# EAGLE library part STM32WB5MMG (library stm32wb5mmg)
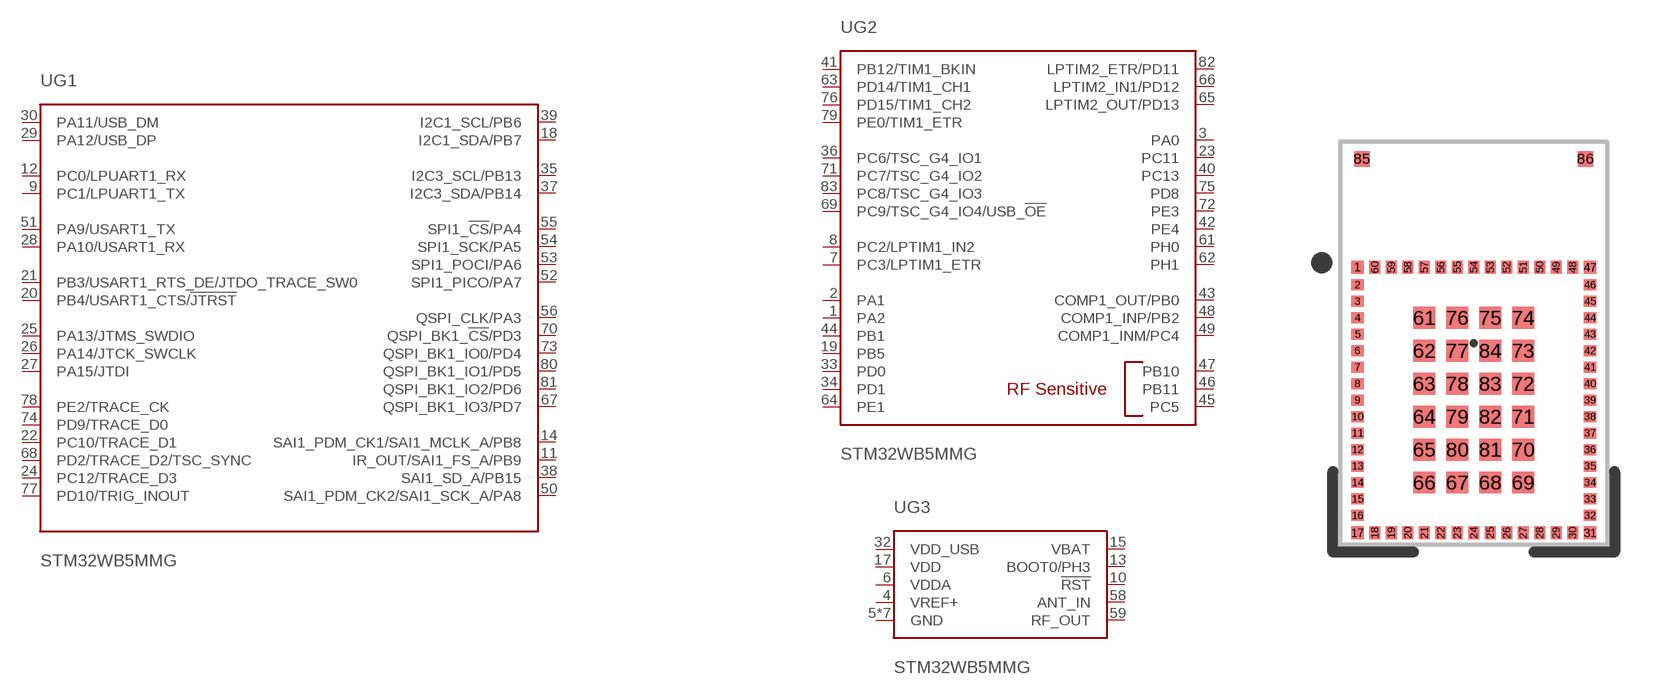
[diagram p0: symbol with the pads of SIP-LGA86; footprint SIP-LGA86]

Designator prefix U; gates G1=STM32WB5MMG_COMMS G2=STM32WB5MMG_PERIPHS G3=STM32WB5MMG_PWR_MISC

## STM32WB5MMG_LOGICAL (PROD_ID: IC-17415; VALUE: STM32WB5MMG)  [SIP-LGA86]
1  G2:PA2
2  G2:PA1
3  G2:PA0
4  G3:VREF+
5  G3:GND
6  G3:VDDA
7  G2:PC3/LPTIM1_ETR
8  G2:PC2/LPTIM1_IN2
9  G1:PC1/LPUART1_TX
10  G3:!RST!
11  G1:IR_OUT/SAI1_FS_A/PB9
12  G1:PC0/LPUART1_RX
13  G3:BOOT0/PH3
14  G1:SAI1_PDM_CK1/SAI1_MCLK_A/PB8
15  G3:VBAT
16  G3:GND
17  G3:VDD
18  G1:I2C1_SDA/PB7
19  G2:PB5
20  G1:PB4/USART1_CTS/!JTRST!
21  G1:PB3/USART1_RTS_DE/JTDO_TRACE_SW0
22  G1:PC10/TRACE_D1
23  G2:PC11
24  G1:PC12/TRACE_D3
25  G1:PA13/JTMS_SWDIO
26  G1:PA14/JTCK_SWCLK
27  G1:PA15/JTDI
28  G1:PA10/USART1_RX
29  G1:PA12/USB_DP
30  G1:PA11/USB_DM
31  G3:GND
32  G3:VDD_USB
33  G2:PD0
34  G2:PD1
35  G1:I2C3_SCL/PB13
36  G2:PC6/TSC_G4_IO1
37  G1:I2C3_SDA/PB14
38  G1:SAI1_SD_A/PB15
39  G1:I2C1_SCL/PB6
40  G2:PC13
41  G2:PB12/TIM1_BKIN
42  G2:PE4
43  G2:COMP1_OUT/PB0
44  G2:PB1
45  G2:PC5
46  G2:PB11
47  G2:PB10
48  G2:COMP1_INP/PB2
49  G2:COMP1_INM/PC4
50  G1:SAI1_PDM_CK2/SAI1_SCK_A/PA8
51  G1:PA9/USART1_TX
52  G1:SPI1_PICO/PA7
53  G1:SPI1_POCI/PA6
54  G1:SPI1_SCK/PA5
55  G1:SPI1_!CS!/PA4
56  G1:QSPI_CLK/PA3
57  G3:GND
58  G3:ANT_IN
59  G3:RF_OUT
60  G3:GND
61  G2:PH0
62  G2:PH1
63  G2:PD14/TIM1_CH1
64  G2:PE1
65  G2:LPTIM2_OUT/PD13
66  G2:LPTIM2_IN1/PD12
67  G1:QSPI_BK1_IO3/PD7
68  G1:PD2/TRACE_D2/TSC_SYNC
69  G2:PC9/TSC_G4_IO4/USB_!OE!
70  G1:QSPI_BK1_!CS!/PD3
71  G2:PC7/TSC_G4_IO2
72  G2:PE3
73  G1:QSPI_BK1_IO0/PD4
74  G1:PD9/TRACE_D0
75  G2:PD8
76  G2:PD15/TIM1_CH2
77  G1:PD10/TRIG_INOUT
78  G1:PE2/TRACE_CK
79  G2:PE0/TIM1_ETR
80  G1:QSPI_BK1_IO1/PD5
81  G1:QSPI_BK1_IO2/PD6
82  G2:LPTIM2_ETR/PD11
83  G2:PC8/TSC_G4_IO3
84  G3:GND
86  G3:GND

## Footprint SIP-LGA86 (pad centres in mm)
smd 0.35 x 0.35: 1 -3.175,2.075; 17 -3.175,-5.175; 31 3.175,-5.175; 47 3.175,2.075
smd 0.35 x 0.3: 2 -3.175,1.6; 3 -3.175,1.15; 4 -3.175,0.7; 5 -3.175,0.25; 6 -3.175,-0.2; 7 -3.175,-0.65; 8 -3.175,-1.1; 9 -3.175,-1.55; 10 -3.175,-2; 11 -3.175,-2.45; 12 -3.175,-2.9; 13 -3.175,-3.35; 14 -3.175,-3.8; 15 -3.175,-4.25; 16 -3.175,-4.7; 32 3.175,-4.7; 33 3.175,-4.25; 34 3.175,-3.8; 35 3.175,-3.35; 36 3.175,-2.9; 37 3.175,-2.45; 38 3.175,-2; 39 3.175,-1.55; 40 3.175,-1.1; 41 3.175,-0.65; 42 3.175,-0.2; 43 3.175,0.25; 44 3.175,0.7; 45 3.175,1.15; 46 3.175,1.6
smd 0.3 x 0.35: 18 -2.7,-5.175; 19 -2.25,-5.175; 20 -1.8,-5.175; 21 -1.35,-5.175; 22 -0.9,-5.175; 23 -0.45,-5.175; 24 0,-5.175; 25 0.45,-5.175; 26 0.9,-5.175; 27 1.35,-5.175; 28 1.8,-5.175; 29 2.25,-5.175; 30 2.7,-5.175; 48 2.7,2.075; 49 2.25,2.075; 50 1.8,2.075; 51 1.35,2.075; 52 0.9,2.075; 53 0.45,2.075; 54 0,2.075; 55 -0.45,2.075; 56 -0.9,2.075; 57 -1.35,2.075; 58 -1.8,2.075; 59 -2.25,2.075; 60 -2.7,2.075
smd 0.6 x 0.6: 61 -1.35,0.7; 62 -1.35,-0.2; 63 -1.35,-1.1; 64 -1.35,-2; 65 -1.35,-2.9; 66 -1.35,-3.8; 67 -0.45,-3.8; 68 0.45,-3.8; 69 1.35,-3.8; 70 1.35,-2.9; 71 1.35,-2; 72 1.35,-1.1; 73 1.35,-0.2; 74 1.35,0.7; 75 0.45,0.7; 76 -0.45,0.7; 77 -0.45,-0.2; 78 -0.45,-1.1; 79 -0.45,-2; 80 -0.45,-2.9; 81 0.45,-2.9; 82 0.45,-2; 83 0.45,-1.1; 84 0.45,-0.2
smd 0.43 x 0.43: 85 -3.05,5.035; 86 3.05,5.035